# Altium footprint library RGB-Cube.PcbLib: 10 footprints
Each footprint in its own frame and in the unit in brackets; x right, y up, seen from the top. Pads: shape width x height; smd on the part's side, far side on the other; paste and mask are expansions set on the pad; w line width, h text height; cw(c..) or ccw(c..) is an arc to the next point about the centre after c.
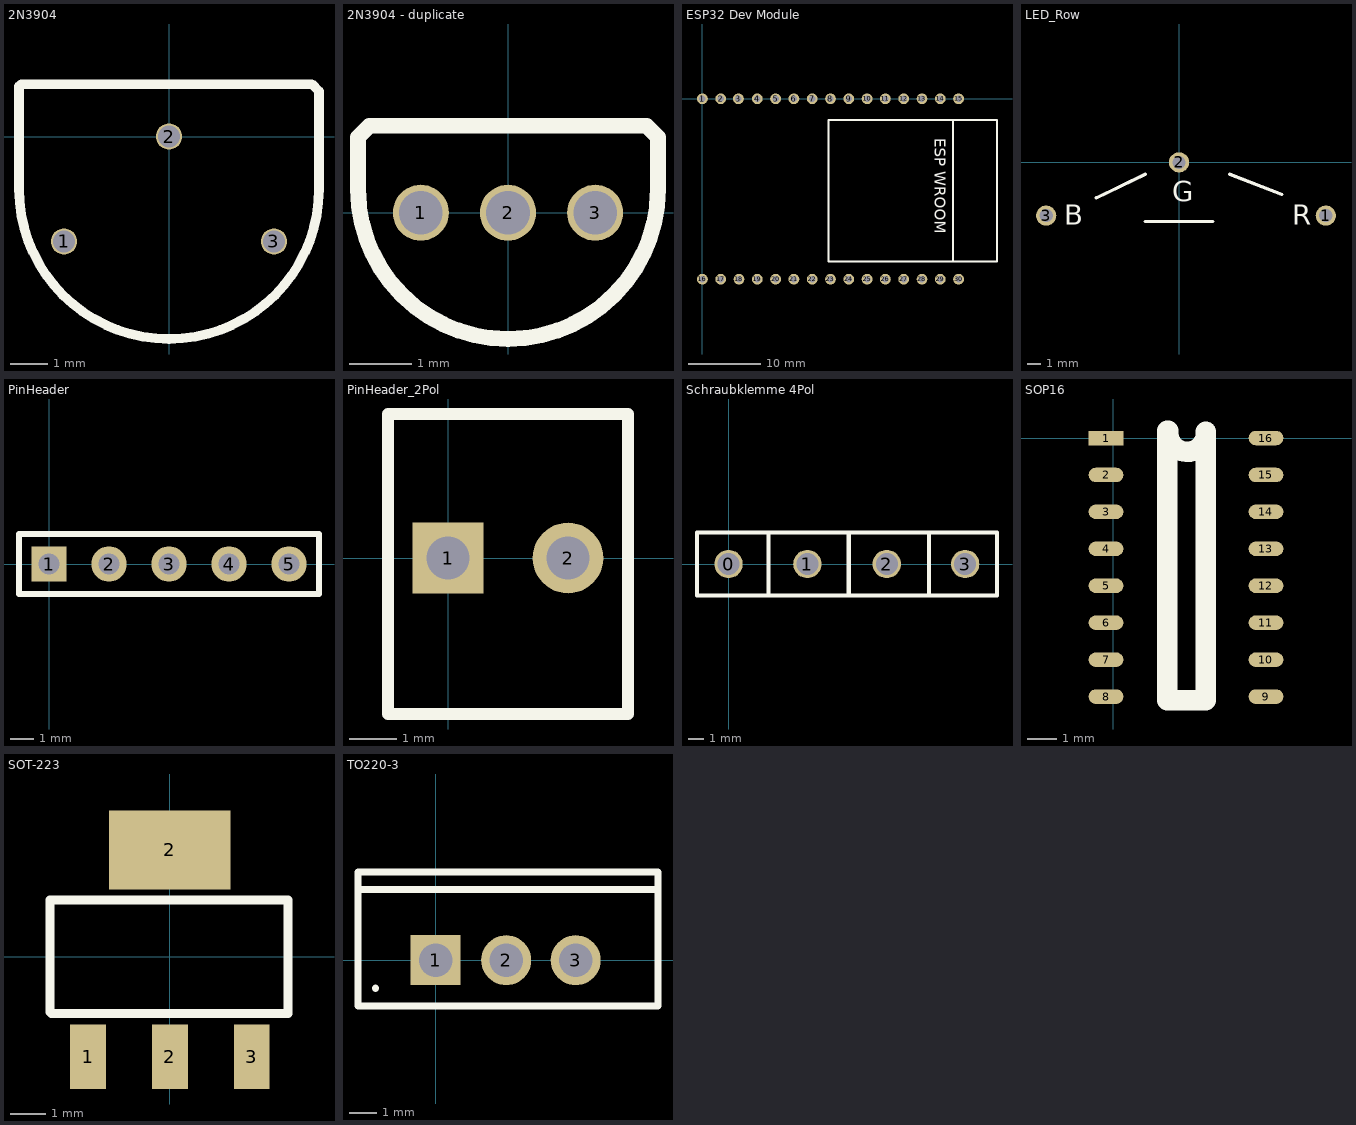
[diagram p0: the footprints below, top view; thin cyan lines are the x and y axes]

## 2N3904 [mm] "Farnell: 1700648"
height 10
pads (3):
  round 0.7 hole 0.6: 1(-2.8,-2.8) 2(0,0) 3(2.8,-2.8)
Top Overlay:
  lines w0.254: -4,-1.4 ccw(c0,-1.4) 4,-1.4 4,1.207 3.81,1.397 3.556,1.397 -3.937,1.397 -4,1.334 -4,-1.4

## 2N3904 - duplicate [mm] "Farnell: 1700648"
height 10
pads (3):
  round 0.9 hole 0.7: 1(-1.4,0) 2(0,0) 3(1.4,0)
Top Overlay:
  lines w0.254: -2.41,0.381 ccw(c0,0.381) 2.41,0.381 2.41,1.212 2.225,1.397 -2.225,1.397 -2.41,1.212 -2.41,0.381
3D body "TO92.stp": height 7.7, standoff -1.6, extent -2.765,-2.794 2.765,1.284

## ESP32 Dev Module [mm] "https://github.com/espressif/arduino-esp32/issues/544"
pads (30):
  round 1.5 hole 0.9: 1(0,0) 2(2.54,0) 3(5,0) 4(7.62,0) 5(10.16,0) 6(12.7,0) 7(15.24,0) 8(17.78,0) 9(20.32,0) 10(22.86,0) 11(25.4,0) 12(27.94,0) 13(30.48,0) 14(33.02,0) 15(35.56,0) 16(0,-25.04) 17(2.54,-25.04) 18(5.08,-25.04) 19(7.62,-25.04) 20(10.16,-25.04) 21(12.7,-25.04) 22(15.24,-25.04) 23(17.78,-25.04) 24(20.32,-25.04) 25(22.86,-25.04) 26(25.4,-25.04) 27(27.94,-25.04) 28(30.48,-25.04) 29(33.02,-25.04) 30(35.56,-25.04)
Top Overlay:
  lines w0.254: 34.798,-22.606 34.798,-2.921 ; 40.894,-3.048 40.894,-2.921 ; 40.894,-2.921 17.526,-2.921 17.526,-22.606 40.894,-22.606 40.894,-2.921
  text "ESP WROOM" at 32.258,-5.461 h1.52
3D body "ESP-32_v1.STEP": height 12.2, standoff -0.2, extent -10.012,-26.925 40.918,1.575

## LED_Row [mil]
pads (3):
  round 60 hole 39.37: 1(435,-157.48) 2(0,0) 3(-393.7,-157.48)
Top Overlay:
  lines w10: -245,-105 -100,-35 ; -100,-175 100,-175 ; 150,-35 305,-95
  text "B" at -340,-185 h60
  text "G" at -20,-115 h60
  text "R" at 335,-185 h60

## PinHeader [mm] "Reichelt: RND 205-00675"
height 10
pads (5):
  rect 1.5x1.5 hole 0.9: 1(0,0)
  round 1.5 hole 0.9: 2(2.54,0) 3(5.08,0) 4(7.62,0) 5(10.16,0)
Top Overlay:
  lines w0.254: -1.27,-1.27 -1.27,1.27 11.43,1.27 11.43,-1.27 -1.27,-1.27
3D body "Pluggable Pin Header 5-way.step": height 11.5, standoff -2, extent -1.35,-3.175 11.51,3.225

## PinHeader_2Pol [mm] "Reichelt: PS 25/2G WS"
height 10
pads (2):
  rect 1.5x1.5 hole 0.9: 1(0,0)
  round 1.5 hole 0.9: 2(2.54,0)
Top Overlay:
  lines w0.254: -1.27,-3.302 3.81,-3.302 3.81,3.048 -1.27,3.048 -1.27,-3.302
3D body "Pluggable Pin Header 2-way.step": height 11.5, standoff -2, extent -1.35,-3.302 3.89,3.098

## Schraubklemme 4Pol [mm] "Reichelt: RND 205-00003"
height 8
pads (4):
  round 1.8 hole 1.4: 0(0,0) 1(5,0) 2(10.033,0) 3(15,0)
Top Overlay:
  lines w0.254: 2.54,-2 2.54,2 ; 7.62,-2 7.62,2 ; 12.7,-2 12.7,2 ; -2,-2 -2,2 17.018,2 17.018,-2 -2,-2
3D body "Screw Terminal Block 5mm 4-way.step": height 10, standoff -2, extent -2.657,-4.127 17.493,3.873

## SOP16 [mm]
height 3
pads (16):
  rect 1.2x0.5 smd: 1(-0.25,0)
  oval 1.2x0.5 smd: 2(-0.25,-1.27) 3(-0.25,-2.54) 4(-0.25,-3.81) 5(-0.25,-5.08) 6(-0.25,-6.35) 7(-0.25,-7.62) 8(-0.25,-8.89) 9(5.25,-8.89) 10(5.25,-7.62) 11(5.25,-6.35) 12(5.25,-5.08) 13(5.25,-3.81) 14(5.25,-2.54) 15(5.25,-1.27) 16(5.25,0)
Top Overlay:
  lines w0.7: 1.86,0.254 1.86,-9.017 3.175,-9.017 3.175,0.226 ; 1.894,0.245 ccw(c2.54,0.177) 3.188,0.226
3D body "NXP SO16 SOT109-1.stp": height 1.48, standoff 0, extent -0.477,-9.395 5.558,0.505
3D body: height 0.25, standoff 0, extent -3.429,-2.667 -3.429,-2.667

## SOT-223 [mm] "BCP 51-16 NXP"
height 2
pads (4):
  rect 1x1.8 smd: 1(-2.286,-2.794) 2(0,-2.794) 3(2.286,-2.794)
  rect 3.4x2.2 smd: 2(0,2.984)
Top Overlay:
  lines w0.254: -3.35,-1.539 -3.35,1.587 3.302,1.587 3.302,-1.587 ; 3.302,-1.587 -3.302,-1.587 3.302,-1.587
3D body "SOT-223.stp": height 1.7, standoff 0, extent -3.302,-3.318 3.198,3.572

## TO220-3 [mm] "Reichelt: IRF 3708"
height 20
pads (3):
  rect 1.8x1.8 hole 1.2 square: 1(0,0)
  round 1.8 hole 1.2: 2(2.54,0) 3(5.04,0)
Top Overlay:
  lines w0.254: -2.667,2.54 8.001,2.54 ; -2.159,-1.016 -2.159,-1 ; -2.794,-1.651 -2.794,3.175 8.001,3.175 8.001,-1.651 -2.794,-1.651
3D body "TO3B_(TO220).STEP": height 20, standoff -8.4, extent -2.66,-1.524 7.74,2.976